# Altium schematic symbol library User_Library.SchLib: 2 symbols
Pins are listed as number, name and electrical type; pins without a type are passive.

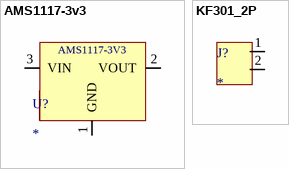
[diagram p0: symbols AMS1117-3v3 to KF301_2P]

## AMS1117-3v3
designator U?
low-dropout (LDO) linear voltage regulator available in fixed and adjustable output versions, designed for reliable low-voltage regulation up to 1A.
pins: 1 GND (power), 2 VOUT (power), 3 VIN (power)
text: AMS1117-3V3

## KF301_2P
designator J?
pins: 1, 2